# Altium footprint library Passives.PcbLib: 22 footprints (part 1 of 2)
Each footprint in its own frame and in the unit in brackets; x right, y up, seen from the top. Pads: shape width x height; smd on the part's side, far side on the other; paste and mask are expansions set on the pad; w line width, h text height; cw(c..) or ccw(c..) is an arc to the next point about the centre after c.
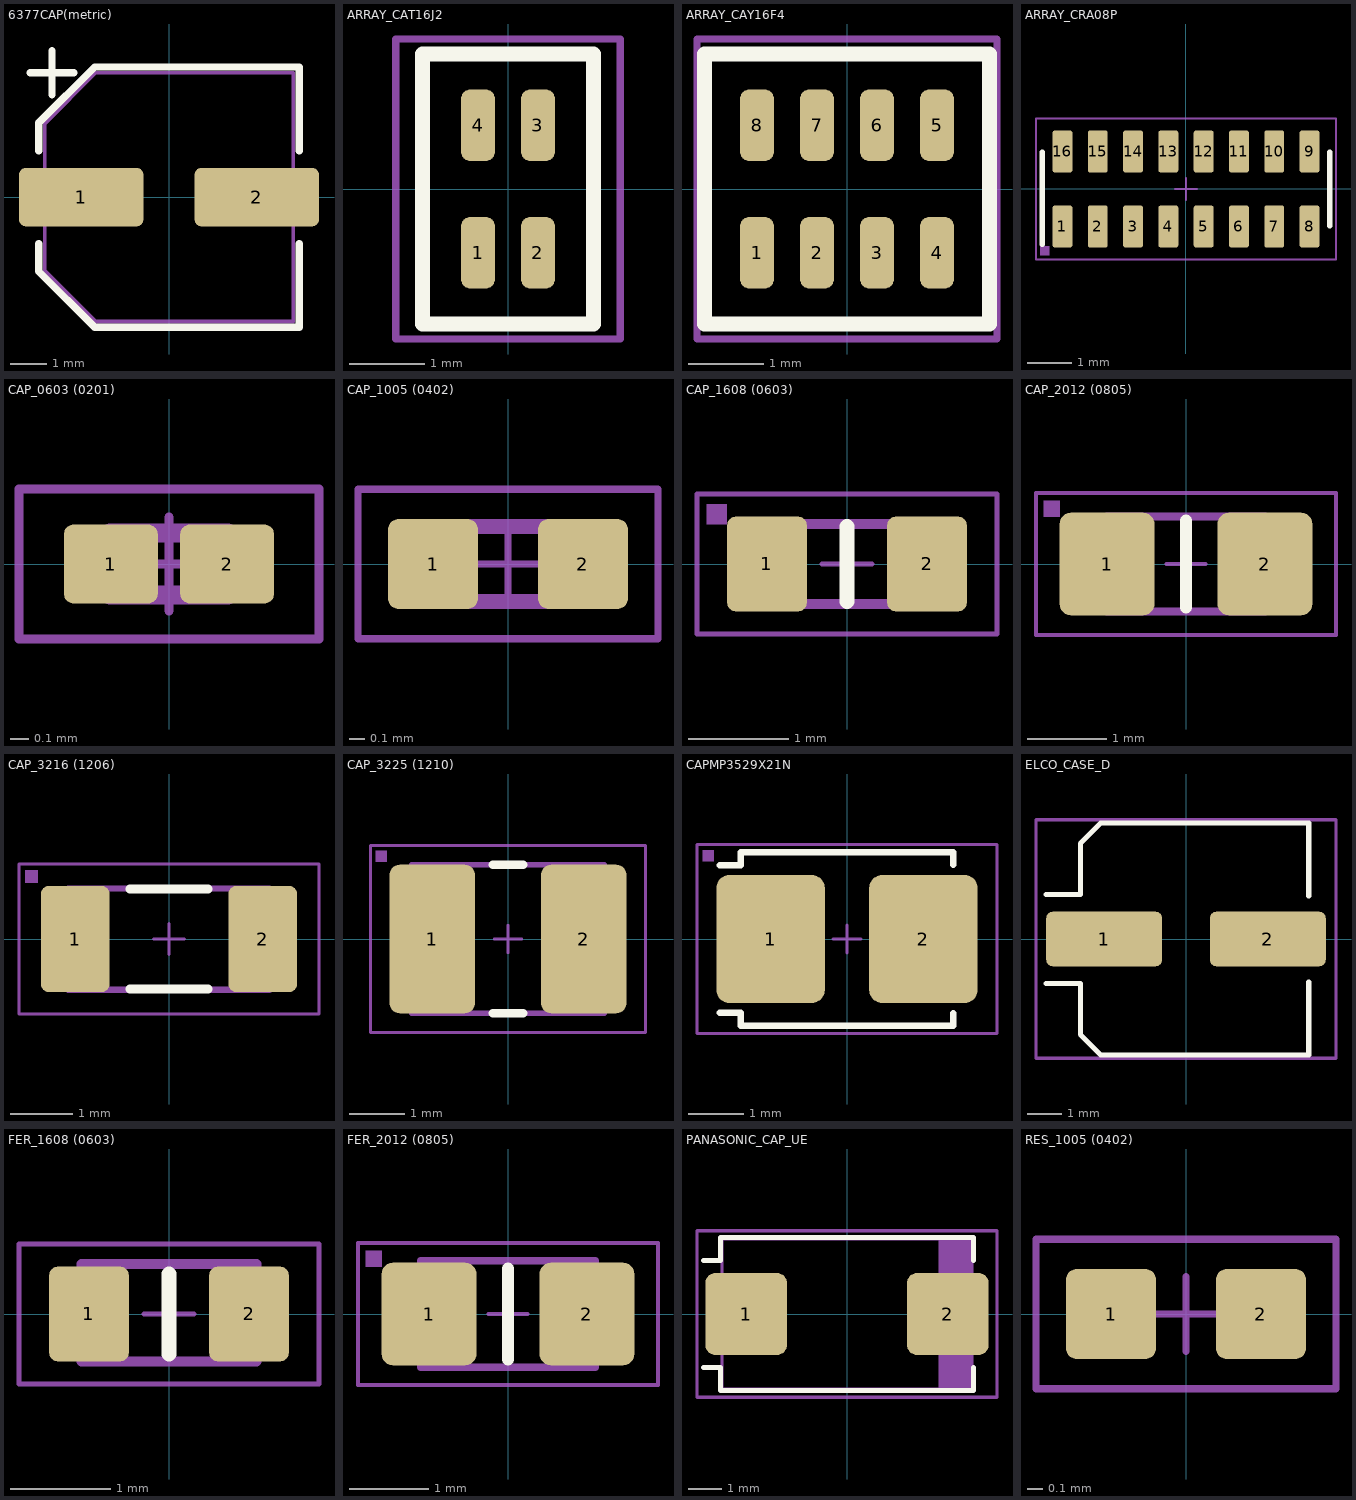
[diagram p0: the footprints below, top view; thin cyan lines are the x and y axes]

## 6377CAP(metric) [mm]
pads (2):
  rrect23% 3.4x1.6 smd: 1(-2.4,0) 2(2.4,0)
Top Overlay:
  lines w0.2: -3.8,3.4 -2.6,3.4 ; -3.556,-1.27 -3.556,-2.032 -2.032,-3.556 3.556,-3.556 3.556,-1.27 ; -3.556,1.27 -3.556,2.032 -2.032,3.556 -1.744,3.556 3.556,3.556 3.556,1.27 ; -3.2,2.8 -3.2,4
15. Courtyard TOP:
  lines w0.1: -3.4,-2 -2,-3.4 3.4,-3.4 3.4,3.4 -2,3.4 -3.4,2 -3.4,-2
  text ".designator" at -2.54,-0.762 h2
3D body: height 7.7, standoff 0, extent -3.65,-3.3 3.65,3.3

## ARRAY_CAT16J2 [mm]
pads (4):
  rrect50% 0.45x0.95 smd: 1(-0.4,-0.85) 2(0.4,-0.85) 3(0.4,0.85) 4(-0.4,0.85)
Top Overlay:
  lines w0.2: -1.143,-1.8 -1.143,1.8 1.143,1.8 1.143,-1.8 -1.143,-1.8
15. Courtyard TOP:
  lines w0.1: -1.5,-2 1.5,-2 1.5,2 -1.5,2 -1.5,-2
  text ".designator" at -0.4,-0.5 h1

## ARRAY_CAY16F4 [mm]
pads (8):
  rrect50% 0.45x0.95 smd: 1(-1.2,-0.85) 2(-0.4,-0.85) 3(0.4,-0.85) 4(1.2,-0.85) 5(1.2,0.85) 6(0.4,0.85) 7(-0.4,0.85) 8(-1.2,0.85)
Top Overlay:
  lines w0.2: -1.9,-1.8 -1.9,1.8 1.9,1.8 1.9,-1.8 -1.9,-1.8
15. Courtyard TOP:
  lines w0.1: -2,-2 2,-2 2,2 -2,2 -2,-2
  text ".designator" at -1.2,-0.5 h1
3D body: height 0.5, standoff 0, extent -1.6,-0.8 1.6,0.8

## ARRAY_CRA08P [mm] "Vishay 8 resistor array"
pads (16):
  rrect23% 0.45x0.95 smd: 1(-2.8,-0.85) 2(-2,-0.85) 3(-1.2,-0.85) 4(-0.4,-0.85) 5(0.4,-0.85) 6(1.2,-0.85) 7(2,-0.85) 8(2.8,-0.85) 9(2.8,0.85) 10(2,0.85) 11(1.2,0.85) 12(0.4,0.85) 13(-0.4,0.85) 14(-1.2,0.85) 15(-2,0.85) 16(-2.8,0.85)
Top Overlay:
  lines w0.12: -3.26,-1.26 -3.26,0.84 ; 3.26,-0.84 3.26,0.84
15. Courtyard TOP:
  lines w0.05: -0.25,0 0.25,0 ; 0,-0.25 0,0.25 ; -3.4,-1.6 3.4,-1.6 3.4,1.6 -3.4,1.6 -3.4,-1.6
18. Assembly TOP:
  region: -3.3,-1.5 -3.3,-1.3 -3.1,-1.3 -3.1,-1.5
  lines w0.05: -3.4,-1.6 -3.4,1.6 3.4,1.6 3.4,-1.6 -3.4,-1.6
  text ".designator" at -2.7,-0.7 h1.5
3D body: height 0.7, standoff 0, extent -3.2,-0.9 3.2,0.9

## CAP_0603 (0201) [mm] "Metric (Imperial)"
height 0.33
pads (2):
  rrect23% 0.5x0.42 smd: 1(-0.31,0) 2(0.31,0)
15. Courtyard TOP:
  lines w0.05: -0.25,0 0.25,0 ; 0,-0.25 0,0.25 ; -0.8,-0.4 0.8,-0.4 0.8,0.4 -0.8,0.4 -0.8,-0.4
17. Comp.body:
  lines w0.1: -0.315,-0.165 0.315,-0.165 0.315,0.165 -0.315,0.165 -0.315,-0.165
18. Assembly TOP:
  lines w0.05: -0.8,-0.4 0.8,-0.4 0.8,0.4 -0.8,0.4 -0.8,-0.4
  text ".designator" at -0.9,-0.25 h0.5
3D body: height 0.33, standoff 0, extent 0.165,-0.165 0.315,0.165
3D body: height 0.33, standoff 0, extent -0.315,-0.165 -0.165,0.165
3D body: height 0.33, standoff 0, extent -0.165,-0.165 0.165,0.165

## CAP_1005 (0402) [mm] "Metric (Imperial)"
height 0.4
pads (2):
  rrect23% 0.6x0.6 smd: 1(-0.5,0) 2(0.5,0)
15. Courtyard TOP:
  lines w0.05: -0.25,0 0.25,0 ; 0,-0.25 0,0.25 ; -1,-0.5 1,-0.5 1,0.5 -1,0.5 -1,-0.5
17. Comp.body:
  lines w0.1: -0.5,-0.25 0.5,-0.25 0.5,0.25 -0.5,0.25 -0.5,-0.25
18. Assembly TOP:
  lines w0.05: -1,-0.5 -1,0.5 1,0.5 1,-0.5 -1,-0.5
  text ".designator" at -0.9,-0.25 h0.5
3D body: height 0.48, standoff -0.02, extent -0.5,-0.25 0.5,0.25

## CAP_1608 (0603) [mm] "Metric (Imperial)"
height 0.55
pads (2):
  rrect23% 0.8x0.95 smd: 1(-0.8,0) 2(0.8,0)
Top Overlay:
  lines w0.15: 0,-0.375 0,0.375
15. Courtyard TOP:
  lines w0.05: -0.25,0 0.25,0 ; 0,-0.25 0,0.25 ; -1.5,-0.7 -1.5,0.7 1.5,0.7 1.5,-0.7 -1.5,-0.7
17. Comp.body:
  lines w0.1: -0.8,-0.4 -0.8,0.4 0.8,0.4 0.8,-0.4 -0.8,-0.4
18. Assembly TOP:
  region: -1.4,0.6 -1.2,0.6 -1.2,0.4 -1.4,0.4
  lines w0.05: -1.5,-0.7 -1.5,0.7 1.5,0.7 1.5,-0.7 -1.5,-0.7
  text ".designator" at -1.275,-0.35 h0.7
3D body: height 0.81, standoff 0.01, extent -0.8,-0.4 0.8,0.4

## CAP_2012 (0805) [mm] "Metric (Imperial)"
height 0.7
pads (2):
  rrect23% 1.2x1.3 smd: 1(-1,0) 2(1,0)
Top Overlay:
  lines w0.15: 0,-0.55 0,0.55
15. Courtyard TOP:
  lines w0.05: -0.25,0 0.25,0 ; 0,-0.25 0,0.25 ; -1.9,-0.9 -1.9,0.9 1.9,0.9 1.9,-0.9 -1.9,-0.9
17. Comp.body:
  lines w0.1: -1,-0.6 -1,0.6 1,0.6 1,-0.6 -1,-0.6
18. Assembly TOP:
  region: -1.8,0.8 -1.6,0.8 -1.6,0.6 -1.8,0.6
  lines w0.05: -1.9,-0.9 1.9,-0.9 1.9,0.9 -1.9,0.9 -1.9,-0.9
  text ".designator" at -1.825,-0.5 h1
3D body: height 0.61, standoff 0.01, extent -1,-0.625 1,0.625

## CAP_3216 (1206) [mm] "Metric (Imperial)"
height 2.54
pads (2):
  rrect23% 1.1x1.7 smd: 1(-1.5,0) 2(1.5,0)
Top Overlay:
  lines w0.15: -0.625,-0.8 0.625,-0.8 ; -0.625,0.8 0.625,0.8
15. Courtyard TOP:
  lines w0.05: -0.25,0 0.25,0 ; 0,-0.25 0,0.25 ; -2.4,-1.2 -2.4,1.2 2.4,1.2 2.4,-1.2 -2.4,-1.2
17. Comp.body:
  lines w0.1: -1.61,0.81 1.61,0.81 1.61,-0.81 -1.61,-0.81 -1.61,0.8 -1.6,0.81
18. Assembly TOP:
  region: -2.3,1.1 -2.1,1.1 -2.1,0.9 -2.3,0.9
  lines w0.05: -2.4,-1.2 2.4,-1.2 2.4,1.2 -2.4,1.2 -2.4,-1.2
  text ".designator" at -2.2,-0.6 h1.2
3D body: height 0.61, standoff -0.01, extent -1.61,-0.81 1.61,0.81

## CAP_3225 (1210) [mm] "Metric (Imperial)"
height 2.7
pads (2):
  rrect23% 1.55x2.7 smd: 1(-1.375,0) 2(1.375,0)
Top Overlay:
  lines w0.15: -0.275,-1.35 0.275,-1.35 ; -0.275,1.35 0.275,1.35
15. Courtyard TOP:
  lines w0.05: -0.25,0 0.25,0 ; 0,-0.25 0,0.25 ; -2.5,-1.7 -2.5,1.7 2.5,1.7 2.5,-1.7 -2.5,-1.7
17. Comp.body:
  lines w0.1: -1.75,-1.35 1.75,-1.35 1.75,1.35 -1.75,1.35 -1.75,-1.35
18. Assembly TOP:
  region: -2.4,1.6 -2.2,1.6 -2.2,1.4 -2.4,1.4
  lines w0.05: -2.5,-1.7 -2.5,1.7 2.5,1.7 2.5,-1.7 -2.5,-1.7
  text ".designator" at -2.2,-0.6 h1.2
3D body: height 2.7, standoff 0, extent -1.15,-1.35 1.15,1.35
3D body: height 2.7, standoff 0, extent -1.75,-1.35 -1.15,1.35
3D body: height 2.7, standoff 0, extent 1.15,-1.35 1.75,1.35

## CAPMP3529X21N [mm] "Molded Capacitor, 2-Leads, Body 3,50x2,85mm, IPC Medium Density"
height 2.1
pads (2):
  rrect23% 1.95x2.3 smd: 1(-1.375,0) 2(1.375,0)
Top Overlay:
  lines w0.12: -2.29,-1.33 -1.91,-1.33 -1.91,-1.56 1.91,-1.56 1.91,-1.34 ; -2.29,1.33 -1.91,1.33 -1.91,1.56 1.91,1.56 1.91,1.34
15. Courtyard TOP:
  lines w0.05: -0.25,0 0.25,0 ; 0,-0.25 0,0.25 ; -2.7,-1.7 -2.7,1.7 2.7,1.7 2.7,-1.7 -2.7,-1.7
18. Assembly TOP:
  region: -2.6,1.6 -2.4,1.6 -2.4,1.4 -2.6,1.4
  lines w0.05: -2.7,-1.7 -2.7,1.7 2.7,1.7 2.7,-1.7 -2.7,-1.7
  text ".designator" at -2.3,-0.6 h1.2
3D body: height 2.1, standoff 0, extent -1.85,-1.5 1.85,1.5

## ELCO_CASE_D [mm]
pads (2):
  rrect23% 3.4x1.6 smd: 1(-2.4,0) 2(2.4,0)
Top Overlay:
  lines w0.15: -4.1,-1.3 -3.1,-1.3 -3.1,-2.8 -2.5,-3.4 3.6,-3.4 3.6,-1.27 ; -4.1,1.3 -3.1,1.3 -3.1,2.8 -2.5,3.4 -1.588,3.4 3.6,3.4 3.6,1.27
15. Courtyard TOP:
  lines w0.1: -4.4,-3.5 4.4,-3.5 4.4,3.5 -4.4,3.5 -4.4,-3.5
  text ".designator" at -2.54,-0.762 h2
3D body: height 5.55, standoff 0, extent -3.046,-3.3 3.554,3.3

## FER_1608 (0603) [mm] "Metric (Imperial)"
height 0.55
pads (2):
  rrect23% 0.8x0.95 smd: 1(-0.8,0) 2(0.8,0)
Top Overlay:
  lines w0.15: 0,-0.4 0,0.4
15. Courtyard TOP:
  lines w0.05: -0.25,0 0.25,0 ; 0,-0.25 0,0.25 ; -1.5,-0.7 1.5,-0.7 1.5,0.7 -1.5,0.7 -1.5,-0.7
17. Comp.body:
  lines w0.1: -0.875,-0.475 0.875,-0.475 0.875,0.5 -0.875,0.5 -0.875,-0.475
18. Assembly TOP:
  lines w0.05: -1.5,-0.7 1.5,-0.7 1.5,0.7 -1.5,0.7 -1.5,-0.7
  text ".designator" at -1.3,-0.35 h0.7
3D body: height 0.55, standoff 0, extent 0.575,-0.475 0.875,0.475
3D body: height 0.55, standoff 0, extent -0.875,-0.475 -0.575,0.475
3D body: height 0.55, standoff 0.01, extent -0.575,-0.475 0.575,0.475

## FER_2012 (0805) [mm] "Metric (Imperial)"
height 0.7
pads (2):
  rrect23% 1.2x1.3 smd: 1(-1,0) 2(1,0)
Top Overlay:
  lines w0.15: 0,-0.575 0,0.575
15. Courtyard TOP:
  lines w0.05: -0.25,0 0.25,0 ; 0,-0.25 0,0.25 ; -1.9,-0.9 1.9,-0.9 1.9,0.9 -1.9,0.9 -1.9,-0.9
17. Comp.body:
  lines w0.1: -1.1,-0.675 1.1,-0.675 1.1,0.675 -1.1,0.675 -1.1,-0.675
18. Assembly TOP:
  region: -1.8,0.8 -1.6,0.8 -1.6,0.6 -1.8,0.6
  lines w0.05: -1.9,-0.9 1.9,-0.9 1.9,0.9 -1.9,0.9 -1.9,-0.9
  text ".designator" at -1.825,-0.5 h1
3D body: height 0.61, standoff -0.01, extent -1.01,-0.635 1.01,0.635

## PANASONIC_CAP_UE [mm] "Molded Capacitor, 2-Leads, Body 7,30x4,30mm, IPC Medium Density"
height 4.3
pads (2):
  rrect23% 2.45x2.45 smd: 1(-3.025,0) 2(3.025,0)
Top Overlay:
  lines w0.15: -4.3,-1.6 -3.8,-1.6 -3.8,-2.3 3.8,-2.3 3.8,-1.6 ; -4.3,1.6 -3.8,1.6 -3.8,2.3 3.8,2.3 3.8,1.6
15. Courtyard TOP:
  lines w0.1: -4.5,-2.5 4.5,-2.5 4.5,2.5 -4.5,2.5 -4.5,-2.5
  text "." at -4,0 h1
  text ".designator" at -1,-0.5 h1
17. Comp.body:
  region: 3.75,2.25 2.741,2.25 2.741,-2.25 3.75,-2.25
  lines w0.1: -3.75,-2.25 3.75,-2.25 3.75,2.25 -3.75,2.25 -3.75,-2.25
3D body: height 4.3, standoff 0.01, extent -3.75,-2.25 3.75,2.25

## RES_1005 (0402) [mm] "Metric (Imperial)"
height 0.4
pads (2):
  rrect23% 0.6x0.6 smd: 1(-0.5,0) 2(0.5,0)
15. Courtyard TOP:
  lines w0.05: -0.25,0 0.25,0 ; 0,-0.25 0,0.25 ; -1,-0.5 -1,0.5 1,0.5 1,-0.5 -1,-0.5
18. Assembly TOP:
  lines w0.05: -1,-0.5 -1,0.5 1,0.5 1,-0.5 -1,-0.5
  text "R200" at -0.9,-0.25 h0.5
3D body: height 0.36, standoff -0.01, extent -0.51,-0.26 0.51,0.26